# Altium integrated library R0402.IntLib: 1 symbol
Pins are listed as number, name and electrical type; pins without a type are passive.

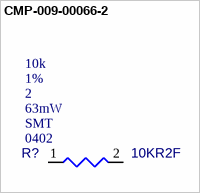
[diagram p0: symbol CMP-009-00066-2]

## CMP-009-00066-2
designator R?, comment 10KR2F  value 10k  Case/Package: 0402  Mounting Technology: SMT  Power: 63mW  Pins: 2  Tolerance: 1%
10K 0.063W 1% 0402 (1005 Metric)  SMD; Value: 10000.00 Ohm; Case-Metric: 1005; Case-EIA: 0402; Technology: SMT; Tolerance: 1 %; Power: 0.063 W
footprint RESC0402(1005)_L (Chip Resistor, Body 1.0x0.5mm, IPC High Density)
footprint RESC0402(1005)_L (Chip Resistor, Body 1.0x0.5mm, IPC High Density)
pins: 1, 2
1 alternate drawing of the same symbol